# EAGLE library part AD8475 (library analog-devices)
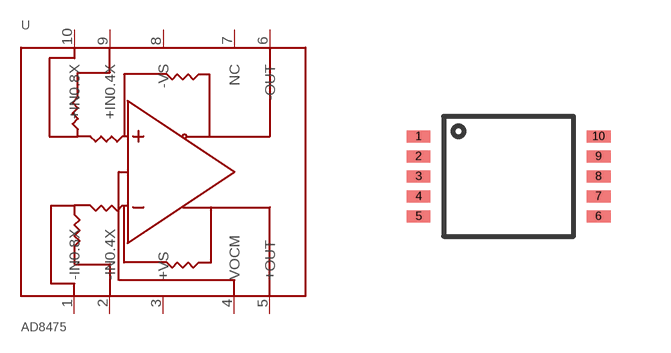
[diagram p34: symbol with the pads of MSOP10; footprint MSOP10]

Designator prefix -

## AD8475  [MSOP10]
1  -IN0.8X
2  -IN0.4X
3  +VS
4  VOCM
5  +OUT
6  -OUT
7  NC
8  -VS
9  +IN0.4X
10  +IN0.8X

## Footprint MSOP10 (pad centres in mm)
smd 0.6 x 0.3: 1 -2.25,1; 2 -2.25,0.5; 3 -2.25,0; 4 -2.25,-0.5; 5 -2.25,-1; 6 2.25,-1; 7 2.25,-0.5; 8 2.25,0; 9 2.25,0.5; 10 2.25,1